# EAGLE library part 735-307/001-000 (library con-wago_735)
Serie 735, Klemmenblock für Leiterplatten 2 Lötstifte/Pol in Reihe / Series 735, Compact PCB terminal block 2 solder pins/pole, in line Polzahl / Pole No.: 6 Rastermaß / Pitch: 5 mm Bemessungsspannung / Rated Voltage: 320 V Nennstrom / Nominal Current: 10 A Leiterquerschnitt / Conductor Size: 0.5 - 1.5 mm² Anschlusstechnik / Connection Technology: PUSH WIRE® Lötstiftlänge: / Solder Pin Length: 3.5 mm Leitereinführung (zur Platine) / Conductor entry angle (to PCB): 90 ° Farbe / Color: grau / gray Stand: 01.01.2012. Die jeweils aktuellen Daten zu diesem Artikel finden Sie in unserem Produktkatalog, den Sie unter www.wago.com einsehen können. As of: 01/01/2012. Please find the newest data for this article in our product catalogue, which can be viewed under www.wago.com.
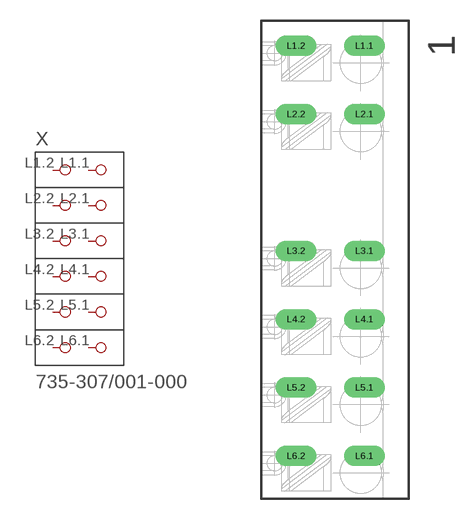
[diagram p10: symbol with the pads of P-735-307/001-000; footprint P-735-307/001-000]

Designator prefix X

## 735-307/001-000  [P-735-307/001-000]
L1.1  P1.1
L1.2  P1.2
L2.1  P2.1
L2.2  P2.2
L3.1  P3.1
L3.2  P3.2
L4.1  P4.1
L4.2  P4.2
L5.1  P5.1
L5.2  P5.2
L6.1  P6.1
L6.2  P6.2

## Footprint P-735-307/001-000 (pad centres in mm)
drill 1 long: L1.1 2.15,15.65; L1.2 -2.85,15.65; L2.1 2.15,10.65; L2.2 -2.85,10.65; L3.1 2.15,0.65; L3.2 -2.85,0.65; L4.1 2.15,-4.35; L4.2 -2.85,-4.35; L5.1 2.15,-9.35; L5.2 -2.85,-9.35; L6.1 2.15,-14.35; L6.2 -2.85,-14.35